# EAGLE library part 90152-14 (library BW-Connectors)
Right angle 2.54mm socket connector, 7x2 pins
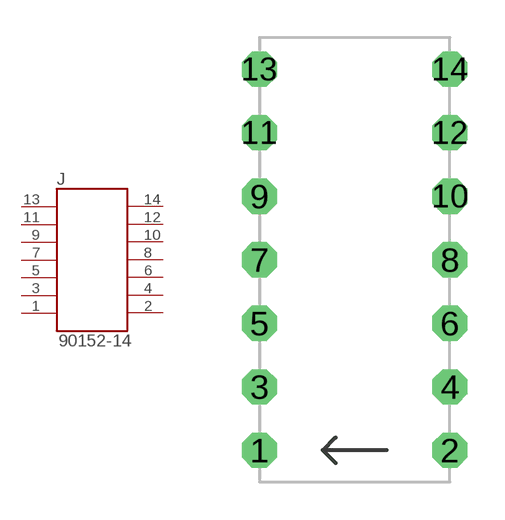
[diagram p1: symbol with the pads of 90152-14; footprint 90152-14]

Designator prefix J

## 90152-14  [90152-14]
1  1
2  2
3  3
4  4
5  5
6  6
7  7
8  8
9  9
10  10
11  11
12  12
13  13
14  14

## Footprint 90152-14 (pad centres in mm)
drill 0.9 octagon: 1 -3.81,-8.89; 2 3.81,-8.89; 3 -3.81,-6.35; 4 3.81,-6.35; 5 -3.81,-3.81; 6 3.81,-3.81; 7 -3.81,-1.27; 8 3.81,-1.27; 9 -3.81,1.27; 10 3.81,1.27; 11 -3.81,3.81; 12 3.81,3.81; 13 -3.81,6.35; 14 3.81,6.35